# EAGLE library part 1554ИД4 (library std-logic-1554series)
АЕЯР.431200.182-10 ТУ 1554ИД4 - Сдвоенный дешифратор-демультиплексор 2 - 4. Изготовитель: ОАО "ИНТЕГРАЛ", г. Минск, р. Беларусь. Технические условия (ТБМ): АЕЯР.431200.182-10 ТУ Технические условия (не ТБМ): АЕЯР.431200.093-07 ТУ
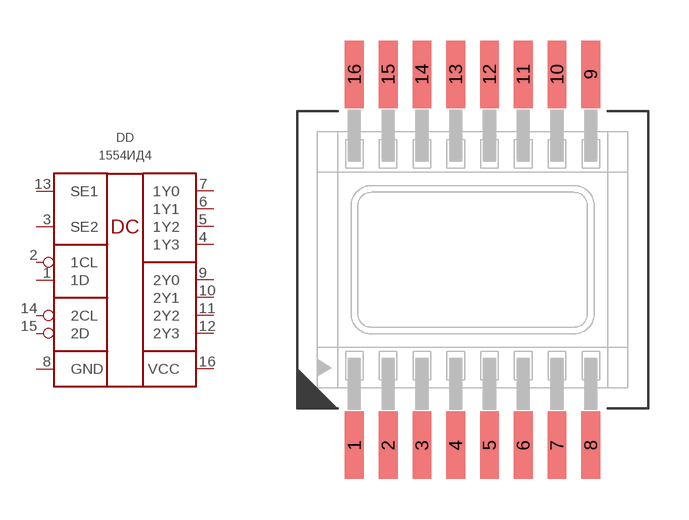
[diagram p29: symbol with the pads of 402.16-32; footprint 402.16-32]

Designator prefix DD

## 1554ИД4ТБМ  [402.16-32]
1  1D  in
2  1CL  in
3  SE2  in
4  1Y3  out
5  1Y2  out
6  1Y1  out
7  1Y0  out
8  GND  pwr
9  2Y0  out
10  2Y1  out
11  2Y2  out
12  2Y3  out
13  SE1  in
14  2CL  in
15  2D  in
16  VCC  pwr

## Footprint 402.16-32 (pad centres in mm)
smd 0.7 x 2.5: 1 -4.375,-6.875; 2 -3.125,-6.875; 3 -1.875,-6.875; 4 -0.625,-6.875; 5 0.625,-6.875; 6 1.875,-6.875; 7 3.125,-6.875; 8 4.375,-6.875; 9 4.375,6.875; 10 3.125,6.875; 11 1.875,6.875; 12 0.625,6.875; 13 -0.625,6.875; 14 -1.875,6.875; 15 -3.125,6.875; 16 -4.375,6.875